# Altium schematic symbol library S2B-PH-SM4-TB(LF)(SN).SchLib: 1 symbol
Pins are listed as number, name and electrical type; pins without a type are passive.

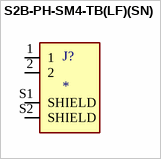
[diagram p0: symbol S2B-PH-SM4-TB(LF)(SN)]

## S2B-PH-SM4-TB(LF)(SN)
designator J?
1x2P PH 1 2mm Male pin 2 -25℃~+85℃ 2A Surface Mount SMD,P=2mm Wire To Board / Wire To Wire Connector ROHS; Manufacturer: JST Sales America; Mfr. Part #: S2B-PH-SM4-TB(LF)(SN); LCSC Part #: C295747; Datasheet: https://datasheet.lcsc.com/lcsc/2102031704_JST-Sales-America-S2B-PH-SM4-TB-LF-SN_C295747.pdf; Digi-Key_Part_Number: 455-1749-2-ND; Package: SMD,P=2mm; Packaging: Tape & Reel (TR)
footprint JST_S2B-PH-SM4-TB(LF)(SN)
pins: 1, 2, S1 SHIELD, S2 SHIELD